# Altium schematic symbol library Capacitors.SchLib: 41 symbols
Pins are listed as number, name and electrical type; pins without a type are passive.

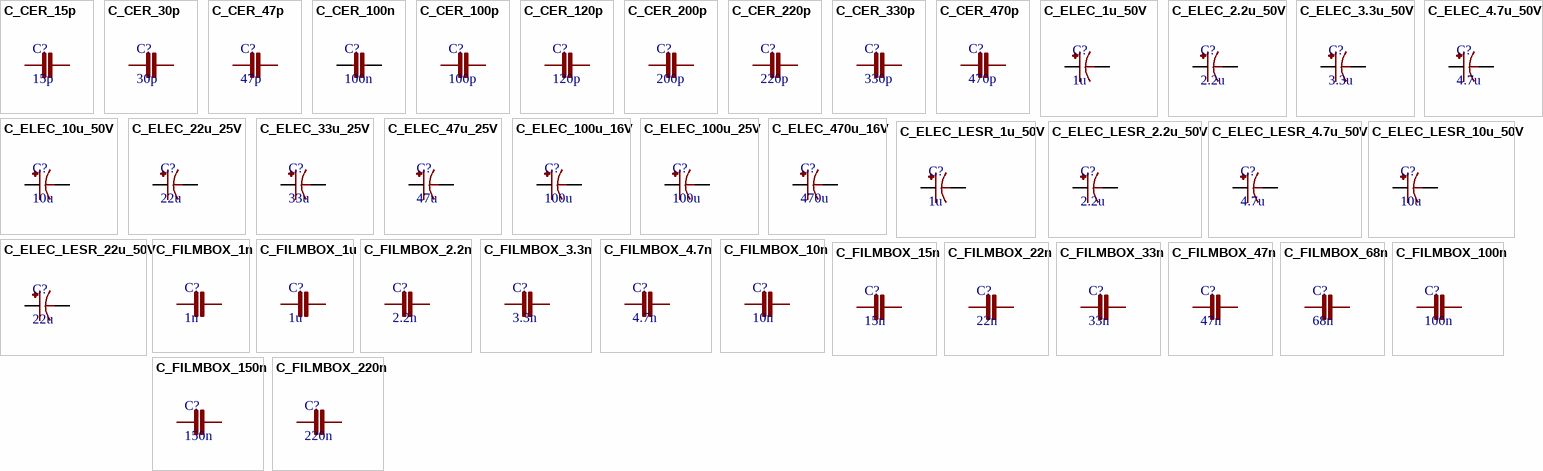
[diagram p0: symbols C_CER_15p to C_FILMBOX_220n]

## C_CER_15p
designator C?, comment 15p
15p MLCC X7R radial capacitor; PinSpacing: 5.08mm; Price: 0.01; Package: Radial
footprint CER_050
pins: 1, 2

## C_CER_30p
designator C?, comment 30p
30p MLCC X7R radial capacitor; PinSpacing: 5.08mm; Price: 0.01; Package: Radial
footprint CER_050
pins: 1, 2

## C_CER_47p
designator C?, comment 47p
47p MLCC X7R radial capacitor; PinSpacing: 5.08mm; Price: 0.01; Package: Radial
footprint CER_050
pins: 1, 2

## C_CER_100n
designator C?, comment 100n
100n MLCC X7R radial capacitor; PinSpacing: 5.08mm; Price: 0.02; Package: Radial
footprint CER_050
pins: 1, 2

## C_CER_100p
designator C?, comment 100p
100p MLCC X7R radial capacitor; PinSpacing: 5.08mm; Price: 0.01; Package: Radial
footprint CER_050
pins: 1, 2

## C_CER_120p
designator C?, comment 120p
120p MLCC X7R radial capacitor; PinSpacing: 5.08mm; Price: 0.01; Package: Radial
footprint CER_050
pins: 1, 2

## C_CER_200p
designator C?, comment 200p
200p MLCC X7R radial capacitor; PinSpacing: 5.08mm; Price: 0.01; Package: Radial
footprint CER_050
pins: 1, 2

## C_CER_220p
designator C?, comment 220p
220p MLCC X7R radial capacitor; PinSpacing: 5.08mm; Price: 0.01; Package: Radial
footprint CER_050
pins: 1, 2

## C_CER_330p
designator C?, comment 330p
330p MLCC X7R radial capacitor; PinSpacing: 5.08mm; Price: 0.01; Package: Radial
footprint CER_050
pins: 1, 2

## C_CER_470p
designator C?, comment 470p
470p MLCC X7R radial capacitor; PinSpacing: 5.08mm; Price: 0.01; Package: Radial
footprint CER_050
pins: 1, 2

## C_ELEC_1u_50V
designator C?, comment 1u
1u 50V electrolytic capacitor; PinSpacing: 2mm; Price: 0.02; Dimensions: 4x8mm; Package: Radial
footprint ELEC_040_020
pins: +, -

## C_ELEC_2.2u_50V
designator C?, comment 2.2u
2.2u 50V electrolytic capacitor; PinSpacing: 2mm; Price: 0.02; Dimensions: 4x8mm; Package: Radial
footprint ELEC_040_020
pins: +, -

## C_ELEC_3.3u_50V
designator C?, comment 3.3u
3.3u 50V electrolytic capacitor; PinSpacing: 2mm; Price: 0.02; Dimensions: 4x8mm; Package: Radial
footprint ELEC_040_020
pins: +, -

## C_ELEC_4.7u_50V
designator C?, comment 4.7u
4.7u 50V electrolytic capacitor; PinSpacing: 2mm; Price: 0.02; Dimensions: 4x8mm; Package: Radial
footprint ELEC_040_020
pins: +, -

## C_ELEC_10u_50V
designator C?, comment 10u
10u 50V electrolytic capacitor; PinSpacing: 2mm; Price: 0.02; Dimensions: 4x8mm; Package: Radial
footprint ELEC_050_020
pins: +, -

## C_ELEC_22u_25V
designator C?, comment 22u
22u 25V electrolytic capacitor; PinSpacing: 2mm; Price: 0.02; Dimensions: 4x8mm; Package: Radial
footprint ELEC_040_020
pins: +, -

## C_ELEC_33u_25V
designator C?, comment 33u
33u 25V electrolytic capacitor; PinSpacing: 2mm; Price: 0.02; Dimensions: 5x8mm; Package: Radial
footprint ELEC_050_020
pins: +, -

## C_ELEC_47u_25V
designator C?, comment 47u
47u 25V electrolytic capacitor; PinSpacing: 2mm; Price: 0.02; Dimensions: 5x8mm; Package: Radial
footprint ELEC_050_020
pins: +, -

## C_ELEC_100u_16V
designator C?, comment 100u
100u 16V electrolytic capacitor; PinSpacing: 2mm; Price: 0.02; Dimensions: 5x8mm; Package: Radial
footprint ELEC_050_020
pins: +, -

## C_ELEC_100u_25V
designator C?, comment 100u
100u 25V electrolytic capacitor; PinSpacing: 2.54mm; Price: 0.02; Dimensions: 6.3x8mm; Package: Radial
footprint ELEC_063_025
pins: +, -

## C_ELEC_470u_16V
designator C?, comment 470u
470u 16V electrolytic capacitor; PinSpacing: 4mm; Price: 0.02; Dimensions: 8x12mm; Package: Radial
footprint ELEC_080_040
pins: +, -

## C_ELEC_LESR_1u_50V
designator C?, comment 1u
1u 50V Low ESR electrolytic capacitor; PinSpacing: 2mm; Price: 0.05; Dimensions: 4x8mm; Package: Radial
footprint ELEC_LESR_040_020
pins: +, -

## C_ELEC_LESR_2.2u_50V
designator C?, comment 2.2u
2.2u 50V Low ESR ectrolytic capacitor; PinSpacing: 2mm; Price: 0.05; Dimensions: 5x11mm; Package: Radial
footprint ELEC_LESR_050_020
pins: +, -

## C_ELEC_LESR_4.7u_50V
designator C?, comment 4.7u
4.7u 50V Low ESR ectrolytic capacitor; PinSpacing: 2mm; Price: 0.05; Dimensions: 5x11mm; Package: Radial
footprint ELEC_LESR_050_020
pins: +, -

## C_ELEC_LESR_10u_50V
designator C?, comment 10u
10u 50V Low ESR ectrolytic capacitor; PinSpacing: 2mm; Price: 0.05; Dimensions: 5x11mm; Package: Radial
footprint ELEC_LESR_050_020
pins: +, -

## C_ELEC_LESR_22u_50V
designator C?, comment 22u
22u 50V Low ESR ectrolytic capacitor; PinSpacing: 2mm; Price: 0.05; Dimensions: 5x11mm; Package: Radial
footprint ELEC_LESR_050_020
pins: +, -

## C_FILMBOX_1n
designator C?, comment 1n
1n 100V polyester film box capacitor; PinSpacing: 5.08mm; Price: 0.05; Dimensions: 7.2x2.5x6.5mm; Package: Radial
footprint FILMBOX_SMALL
pins: 1, 2

## C_FILMBOX_1u
designator C?, comment 1u
1u 100V polyester film box capacitor; PinSpacing: 5.08mm; Price: 0.1; Dimensions: 7.2x6x11mm; Package: Radial
footprint FILMBOX_BIG
pins: 1, 2

## C_FILMBOX_2.2n
designator C?, comment 2.2n
2.2n 100V polyester film box capacitor; PinSpacing: 5.08mm; Price: 0.05; Dimensions: 7.2x2.5x6.5mm; Package: Radial
footprint FILMBOX_SMALL
pins: 1, 2

## C_FILMBOX_3.3n
designator C?, comment 3.3n
3.3n 100V polyester film box capacitor; PinSpacing: 5.08mm; Price: 0.05; Dimensions: 7.2x2.5x6.5mm; Package: Radial
footprint FILMBOX_SMALL
pins: 1, 2

## C_FILMBOX_4.7n
designator C?, comment 4.7n
4.7n 100V polyester film box capacitor; PinSpacing: 5.08mm; Price: 0.05; Dimensions: 7.2x2.5x6.5mm; Package: Radial
footprint FILMBOX_SMALL
pins: 1, 2

## C_FILMBOX_10n
designator C?, comment 10n
10n 100V polyester film box capacitor; PinSpacing: 5.08mm; Price: 0.05; Dimensions: 7.2x2.5x6.5mm; Package: Radial
footprint FILMBOX_SMALL
pins: 1, 2

## C_FILMBOX_15n
designator C?, comment 15n
15n 100V polyester film box capacitor; PinSpacing: 5.08mm; Price: 0.05; Dimensions: 7.2x2.5x6.5mm; Package: Radial
footprint FILMBOX_SMALL
pins: 1, 2

## C_FILMBOX_22n
designator C?, comment 22n
22n 100V polyester film box capacitor; PinSpacing: 5.08mm; Price: 0.05; Dimensions: 7.2x2.5x6.5mm; Package: Radial
footprint FILMBOX_SMALL
pins: 1, 2

## C_FILMBOX_33n
designator C?, comment 33n
33n 100V polyester film box capacitor; PinSpacing: 5.08mm; Price: 0.05; Dimensions: 7.2x2.5x6.5mm; Package: Radial
footprint FILMBOX_SMALL
pins: 1, 2

## C_FILMBOX_47n
designator C?, comment 47n
47n 100V polyester film box capacitor; PinSpacing: 5.08mm; Price: 0.05; Dimensions: 7.2x2.5x6.5mm; Package: Radial
footprint FILMBOX_SMALL
pins: 1, 2

## C_FILMBOX_68n
designator C?, comment 68n
68n 100V polyester film box capacitor; PinSpacing: 5.08mm; Price: 0.05; Dimensions: 7.2x2.5x6.5mm; Package: Radial
footprint FILMBOX_SMALL
pins: 1, 2

## C_FILMBOX_100n
designator C?, comment 100n
100n 100V polyester film box capacitor; PinSpacing: 5.08mm; Price: 0.05; Dimensions: 7.2x2.5x6.5mm; Package: Radial
footprint FILMBOX_SMALL
pins: 1, 2

## C_FILMBOX_150n
designator C?, comment 150n
150n 100V polyester film box capacitor; PinSpacing: 5.08mm; Price: 0.05; Dimensions: 7.2x2.5x6.5mm; Package: Radial
footprint FILMBOX_SMALL
pins: 1, 2

## C_FILMBOX_220n
designator C?, comment 220n
220n 100V polyester film box capacitor; PinSpacing: 5.08mm; Price: 0.05; Dimensions: 7.2x2.5x6.5mm; Package: Radial
footprint FILMBOX_SMALL
pins: 1, 2

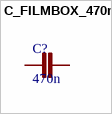
[diagram p1: symbol C_FILMBOX_470n]

## C_FILMBOX_470n
designator C?, comment 470n
470n 100V polyester film box capacitor; PinSpacing: 5.08mm; Price: 0.05; Dimensions: 7.2x4.5x9.5mm; Package: Radial
footprint FILMBOX_MED
pins: 1, 2